# Altium footprint library BBCMP-P20-L2540W2032.PcbLib: 1 footprints
Each footprint in its own frame and in the unit in brackets; x right, y up, seen from the top. Pads: shape width x height; smd on the part's side, far side on the other; paste and mask are expansions set on the pad; w line width, h text height; cw(c..) or ccw(c..) is an arc to the next point about the centre after c.
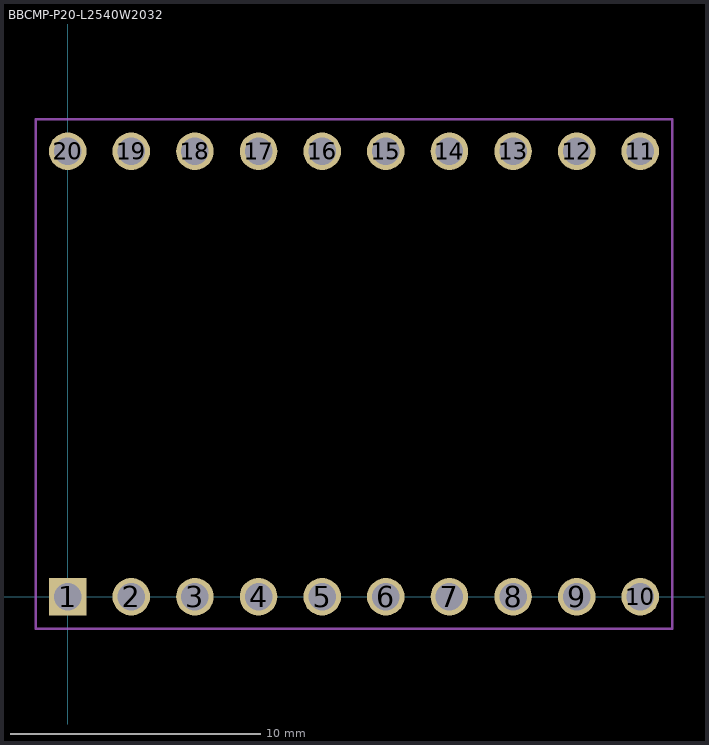
[diagram p0: the footprint, top view; thin cyan lines are the x and y axes]

## BBCMP-P20-L2540W2032 [mm] "BB component, length 25.40mm width 20.32mm"
pads (20):
  rect 1.5x1.5 hole 1.1: 1(0,0)
  round 1.5 hole 1.1: 2(2.54,0) 3(5.08,0) 4(7.62,0) 5(10.16,0) 6(12.7,0) 7(15.24,0) 8(17.78,0) 9(20.32,0) 10(22.86,0) 11(22.86,17.78) 12(20.32,17.78) 13(17.78,17.78) 14(15.24,17.78) 15(12.7,17.78) 16(10.16,17.78) 17(7.62,17.78) 18(5.08,17.78) 19(2.54,17.78) 20(0,17.78)
Mechanical 13:
  lines w0.1: -1.27,-1.27 -1.27,19.05 24.13,19.05 24.13,-1.27 -1.27,-1.27
Mechanical 15:
  lines w0.1: -1.27,-1.27 24.13,-1.27 24.13,19.05 -1.27,19.05 -1.27,-1.27
3D body: height 2.59, standoff -8.95, extent -1.27,-1.27 24.13,1.27
3D body: height 2.59, standoff -8.95, extent -1.27,16.51 24.13,19.05